# Altium schematic symbol library SCH - Connectors - Keystone_3534.SCHLIB: 1 symbol
Pins are listed as number, name and electrical type; pins without a type are passive.

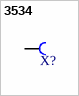
[diagram p0: symbol 3534]

## 3534
designator X?  (value not drawn)
Connector, Flachsteckerhülse, 2.8mm; Manufacturer: Keystone; Category: pin_header; Manufacturer Part Number: 3534; Mounting Style: THT; Pins: 1; Supplier 1: Mouser; Supplier Part Number 1: 534-3534; Created: 2020-10-12_MGremer
footprint CON_3544 (Flachsteckerhülse, Keystone, 2.8mm)
pins: 1 X